# Altium schematic symbol library DD.SchLib: 19 symbols
Pins are listed as number, name and electrical type; pins without a type are passive.

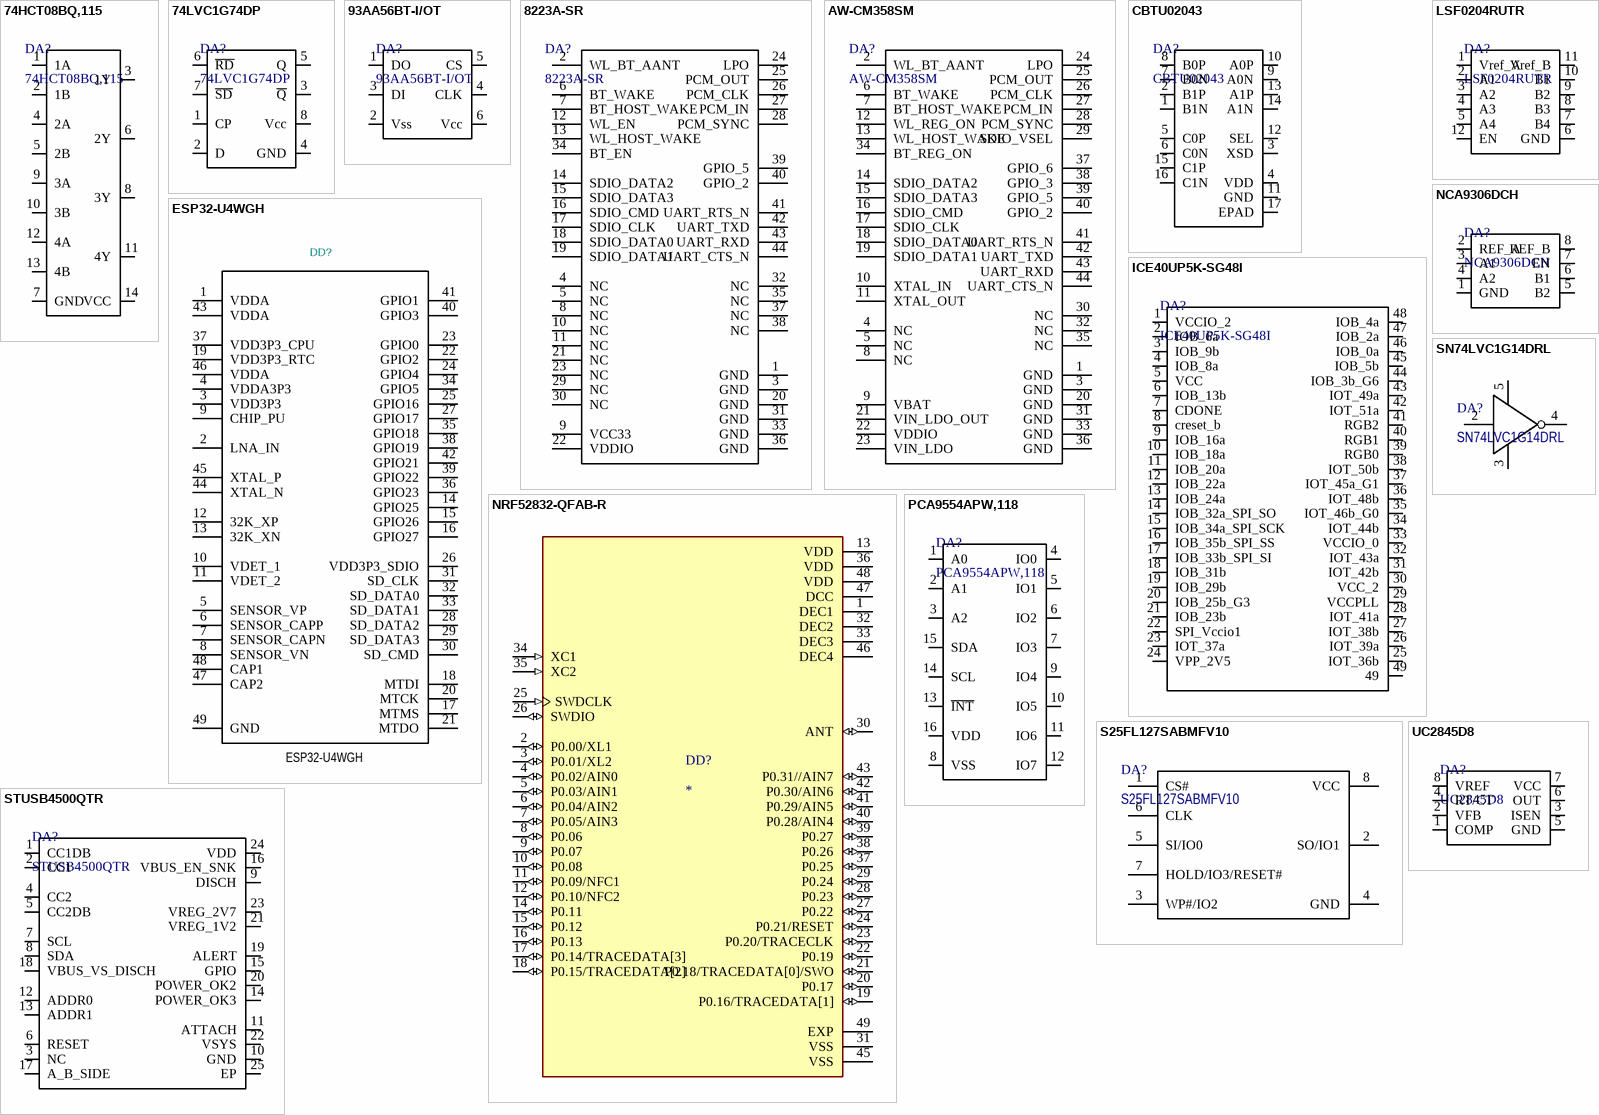
[diagram p0: symbols 74HCT08BQ,115 to UC2845D8]

## 74HCT08BQ,115
designator DA?
The 74HC08; 74HCT08 is a quad 2-input AND gate. Inputs include clamp diodes. This enables the / use of current limiting resistors to interface inputs to voltages in excess of VCC.
footprint DHVQFN14
pins: 1 1A, 2 1B, 3 1Y, 4 2A, 5 2B, 6 2Y, 7 GND, 8 3Y, 9 3A, 10 3B, 11 4Y, 12 4A, 13 4B, 14 VCC

## 74LVC1G74DP
designator DA?
IC FF D-TYPE SNGL 1BIT 8TSSOP
footprint TSOP8 (SOT505-2)
pins: 1 CP, 2 D, 3 ~{Q}, 4 GND, 5 Q, 6 ~{RD}, 7 ~{SD}, 8 Vcc

## 93AA56BT-I/OT
designator DA?
IC EEPROM 2KBIT MIC WIRE SOT23-6
footprint SOT-23-6
pins: 1 DO, 2 Vss, 3 DI, 4 CLK, 5 CS, 6 Vcc

## 8223A-SR
designator DA?
IEEE 802.11a/b/g/n/ac WLAN with  Bluetooth 5 Combo Stamp Module
footprint AW-CM358SM
pins: 1 GND, 2 WL_BT_AANT, 3 GND, 4 NC, 5 NC, 6 BT_WAKE, 7 BT_HOST_WAKE, 8 NC, 9 VCC33, 10 NC, 11 NC, 12 WL_EN, 13 WL_HOST_WAKE, 14 SDIO_DATA2, 15 SDIO_DATA3, 16 SDIO_CMD, 17 SDIO_CLK, 18 SDIO_DATA0, 19 SDIO_DATA1, 20 GND, 21 NC, 22 VDDIO, 23 NC, 24 LPO, 25 PCM_OUT, 26 PCM_CLK, 27 PCM_IN, 28 PCM_SYNC, 29 NC, 30 NC, 31 GND, 32 NC, 33 GND, 34 BT_EN, 35 NC, 36 GND, 37 NC, 38 NC, 39 GPIO_5, 40 GPIO_2, 41 UART_RTS_N, 42 UART_TXD, 43 UART_RXD, 44 UART_CTS_N

## AW-CM358SM
designator DA?
IEEE 802.11a/b/g/n/ac WLAN with  Bluetooth 5 Combo Stamp Module
footprint AW-CM358SM
pins: 1 GND, 2 WL_BT_AANT, 3 GND, 4 NC, 5 NC, 6 BT_WAKE, 7 BT_HOST_WAKE, 8 NC, 9 VBAT, 10 XTAL_IN, 11 XTAL_OUT, 12 WL_REG_ON, 13 WL_HOST_WAKE, 14 SDIO_DATA2, 15 SDIO_DATA3, 16 SDIO_CMD, 17 SDIO_CLK, 18 SDIO_DATA0, 19 SDIO_DATA1, 20 GND, 21 VIN_LDO_OUT, 22 VDDIO, 23 VIN_LDO, 24 LPO, 25 PCM_OUT, 26 PCM_CLK, 27 PCM_IN, 28 PCM_SYNC, 29 SDIO_VSEL, 30 NC, 31 GND, 32 NC, 33 GND, 34 BT_REG_ON, 35 NC, 36 GND, 37 GPIO_6, 38 GPIO_3, 39 GPIO_5, 40 GPIO_2, 41 UART_RTS_N, 42 UART_TXD, 43 UART_RXD, 44 UART_CTS_N

## CBTU02043
designator DA?
High-speed differential 1-to-2 switch
footprint HUQFN16 (1.6x2.4x0.5 mm)
pins: 1 B1N, 2 B1P, 3 XSD, 4 VDD, 5 C0P, 6 C0N, 7 B0N, 8 B0P, 9 A0N, 10 A0P, 11 GND, 12 SEL, 13 A1P, 14 A1N, 15 C1P, 16 C1N, 17 EPAD

## ESP32-U4WGH
designator DD?
PartNumber: ESP32-U4WGH; Footprint: Package_DFN_QFN:QFN-48-1EP_5x5mm_P0.35mm_EP3.7x3.7mm; Value: ESP32-U4WGH
footprint QFN35P500X500X90_HS-49N (QFN, 48-Leads, Body 5,00x5,00mm, Pitch 0,35mm, Thermal Pad 3,70x3,70mm, IPC Medium Density)
pins: 1 VDDA, 2 LNA_IN, 3 VDD3P3, 4 VDDA3P3, 5 SENSOR_VP, 6 SENSOR_CAPP, 7 SENSOR_CAPN, 8 SENSOR_VN, 9 CHIP_PU, 10 VDET_1, 11 VDET_2, 12 32K_XP, 13 32K_XN, 14 GPIO25, 15 GPIO26, 16 GPIO27, 17 MTMS, 18 MTDI, 19 VDD3P3_RTC, 20 MTCK, 21 MTDO, 22 GPIO2, 23 GPIO0, 24 GPIO4, 25 GPIO16, 26 VDD3P3_SDIO, 27 GPIO17, 28 SD_DATA2, 29 SD_DATA3, 30 SD_CMD, 31 SD_CLK, 32 SD_DATA0, 33 SD_DATA1, 34 GPIO5, 35 GPIO18, 36 GPIO23, 37 VDD3P3_CPU, 38 GPIO19, 39 GPIO22, 40 GPIO3, 41 GPIO1, 42 GPIO21, 43 VDDA, 44 XTAL_N, 45 XTAL_P, 46 VDDA, 47 CAP2, 48 CAP1, 49 GND

## ICE40UP5K-SG48I
designator DA?
iCE40 UltraPlus™ Field Programmable Gate Array (FPGA) IC 39 1171456 5280 48-VFQFN Exposed Pad
footprint QFN48_6x6
pins: 1 VCCIO_2, 2 IOB_6a, 3 IOB_9b, 4 IOB_8a, 5 VCC, 6 IOB_13b, 7 CDONE, 8 creset_b, 9 IOB_16a, 10 IOB_18a, 11 IOB_20a, 12 IOB_22a, 13 IOB_24a, 14 IOB_32a_SPI_SO, 15 IOB_34a_SPI_SCK, 16 IOB_35b_SPI_SS, 17 IOB_33b_SPI_SI, 18 IOB_31b, 19 IOB_29b, 20 IOB_25b_G3, 21 IOB_23b, 22 SPI_Vccio1, 23 IOT_37a, 24 VPP_2V5, 25 IOT_36b, 26 IOT_39a, 27 IOT_38b, 28 IOT_41a, 29 VCCPLL, 30 VCC_2, 31 IOT_42b, 32 IOT_43a, 33 VCCIO_0, 34 IOT_44b, 35 IOT_46b_G0, 36 IOT_48b, 37 IOT_45a_G1, 38 IOT_50b, 39 RGB0, 40 RGB1, 41 RGB2, 42 IOT_51a, 43 IOT_49a, 44 IOB_3b_G6, 45 IOB_5b, 46 IOB_0a, 47 IOB_2a, 48 IOB_4a, 49

## LSF0204RUTR
designator DA?
LSF0204RUTR Translation - Voltage Levels 4Bit BidirectionalV Lev Transltr 12-UQFN
footprint UQFN12
pins: 1 Vref_A, 2 A1, 3 A2, 4 A3, 5 A4, 6 GND, 7 B4, 8 B3, 9 B2, 10 B1, 11 Vref_B, 12 EN

## NCA9306DCH
designator DA?
Voltage Level Translator Bidirectional 1 Circuit 2 Channel 100MHz 8-VSSOP
footprint VSSOP-8
pins: 1 GND, 2 REF_A, 3 A1, 4 A2, 5 B2, 6 B1, 7 EN, 8 REF_B

## NRF52832-QFAB-R
designator DD?
IC RF TxRx + MCU Bluetooth, General ISM > 1GHz ANT, Bluetooth v5.0 2.4GHz 48-VFQFN Exposed Pad; MP: NRF52832-QFAB-R; MF: Nordic Semiconductor; Price: None; SnapEDA_Link: https://www.snapeda.com/parts/NRF52832-QFAB-R/Nordic%20Semiconductor%20ASA/view-part/548168/?ref=snap; Availability: Unavailable; Value: *; Package: VFQFN-48 Nordic Semiconductor
footprint QFN40P600X600X90-49N
pins: 1 DEC1 (power), 2 P0.00/XL1 (io), 3 P0.01/XL2 (io), 4 P0.02/AIN0 (io), 5 P0.03/AIN1 (io), 6 P0.04/AIN2 (io), 7 P0.05/AIN3 (io), 8 P0.06 (io), 9 P0.07 (io), 10 P0.08 (io), 11 P0.09/NFC1 (io), 12 P0.10/NFC2 (io), 13 VDD (power), 14 P0.11 (io), 15 P0.12 (io), 16 P0.13 (io), 17 P0.14/TRACEDATA[3] (io), 18 P0.15/TRACEDATA[2] (io), 19 P0.16/TRACEDATA[1] (io), 20 P0.17 (io), 21 P0.18/TRACEDATA[0]/SWO (io), 22 P0.19 (io), 23 P0.20/TRACECLK (io), 24 P0.21/RESET (io), 25 SWDCLK (in), 26 SWDIO (io), 27 P0.22 (io), 28 P0.23 (io), 29 P0.24 (io), 30 ANT (io), 31 VSS (power), 32 DEC2 (power), 33 DEC3 (power), 34 XC1 (in), 35 XC2 (in), 36 VDD (power), 37 P0.25 (io), 38 P0.26 (io), 39 P0.27 (io), 40 P0.28/AIN4 (io), 41 P0.29/AIN5 (io), 42 P0.30/AIN6 (io), 43 P0.31//AIN7 (io), 45 VSS (power), 46 DEC4 (power), 47 DCC (power), 48 VDD (power), 49 EXP (power)

## PCA9554APW,118
designator DA?
8-bit I2C-bus and SMBus I/O port with interrupt
footprint TSSOP16
pins: 1 A0, 2 A1, 3 A2, 4 IO0, 5 IO1, 6 IO2, 7 IO3, 8 VSS, 9 IO4, 10 IO5, 11 IO6, 12 IO7, 13 ~{INT}, 14 SCL, 15 SDA, 16 VDD

## S25FL127SABMFV10
designator DA?
NOR Flash Nor
footprint SOIC-8 (6x5x1.75 mm)
pins: 1 CS#, 2 SO/IO1, 3 WP#/IO2, 4 GND, 5 SI/IO0, 6 CLK, 7 HOLD/IO3/RESET#, 8 VCC

## SN74LVC1G14DRL
designator DA?
Inverters Single Schmitt-Trig Inverter
footprint 5-Pin SOT-5X3
pins: 2 A, 3 GND, 4 Y, 5 VCC

## STUSB4500QTR
designator DA?
Standalone USB PD sink controller with short-to-VBUS protections
footprint QFN-24 (4X4)
pins: 1 CC1DB, 2 CC1, 3 NC, 4 CC2, 5 CC2DB, 6 RESET, 7 SCL, 8 SDA, 9 DISCH, 10 GND, 11 ATTACH, 12 ADDR0, 13 ADDR1, 14 POWER_OK3, 15 GPIO, 16 VBUS_EN_SNK, 17 A_B_SIDE, 18 VBUS_VS_DISCH, 19 ALERT, 20 POWER_OK2, 21 VREG_1V2, 22 VSYS, 23 VREG_2V7, 24 VDD, 25 EP

## UC2845D8
designator DA?
Single ended 500KHz current mode PWM controller with 8.4V/7.6V UVLO 50% duty cycle, -40C to 85C
footprint SOIC-8 (6x5x1.75 mm)
pins: 1 COMP, 2 VFB, 3 ISEN, 4 RT/CT, 5 GND, 6 OUT, 7 VCC, 8 VREF

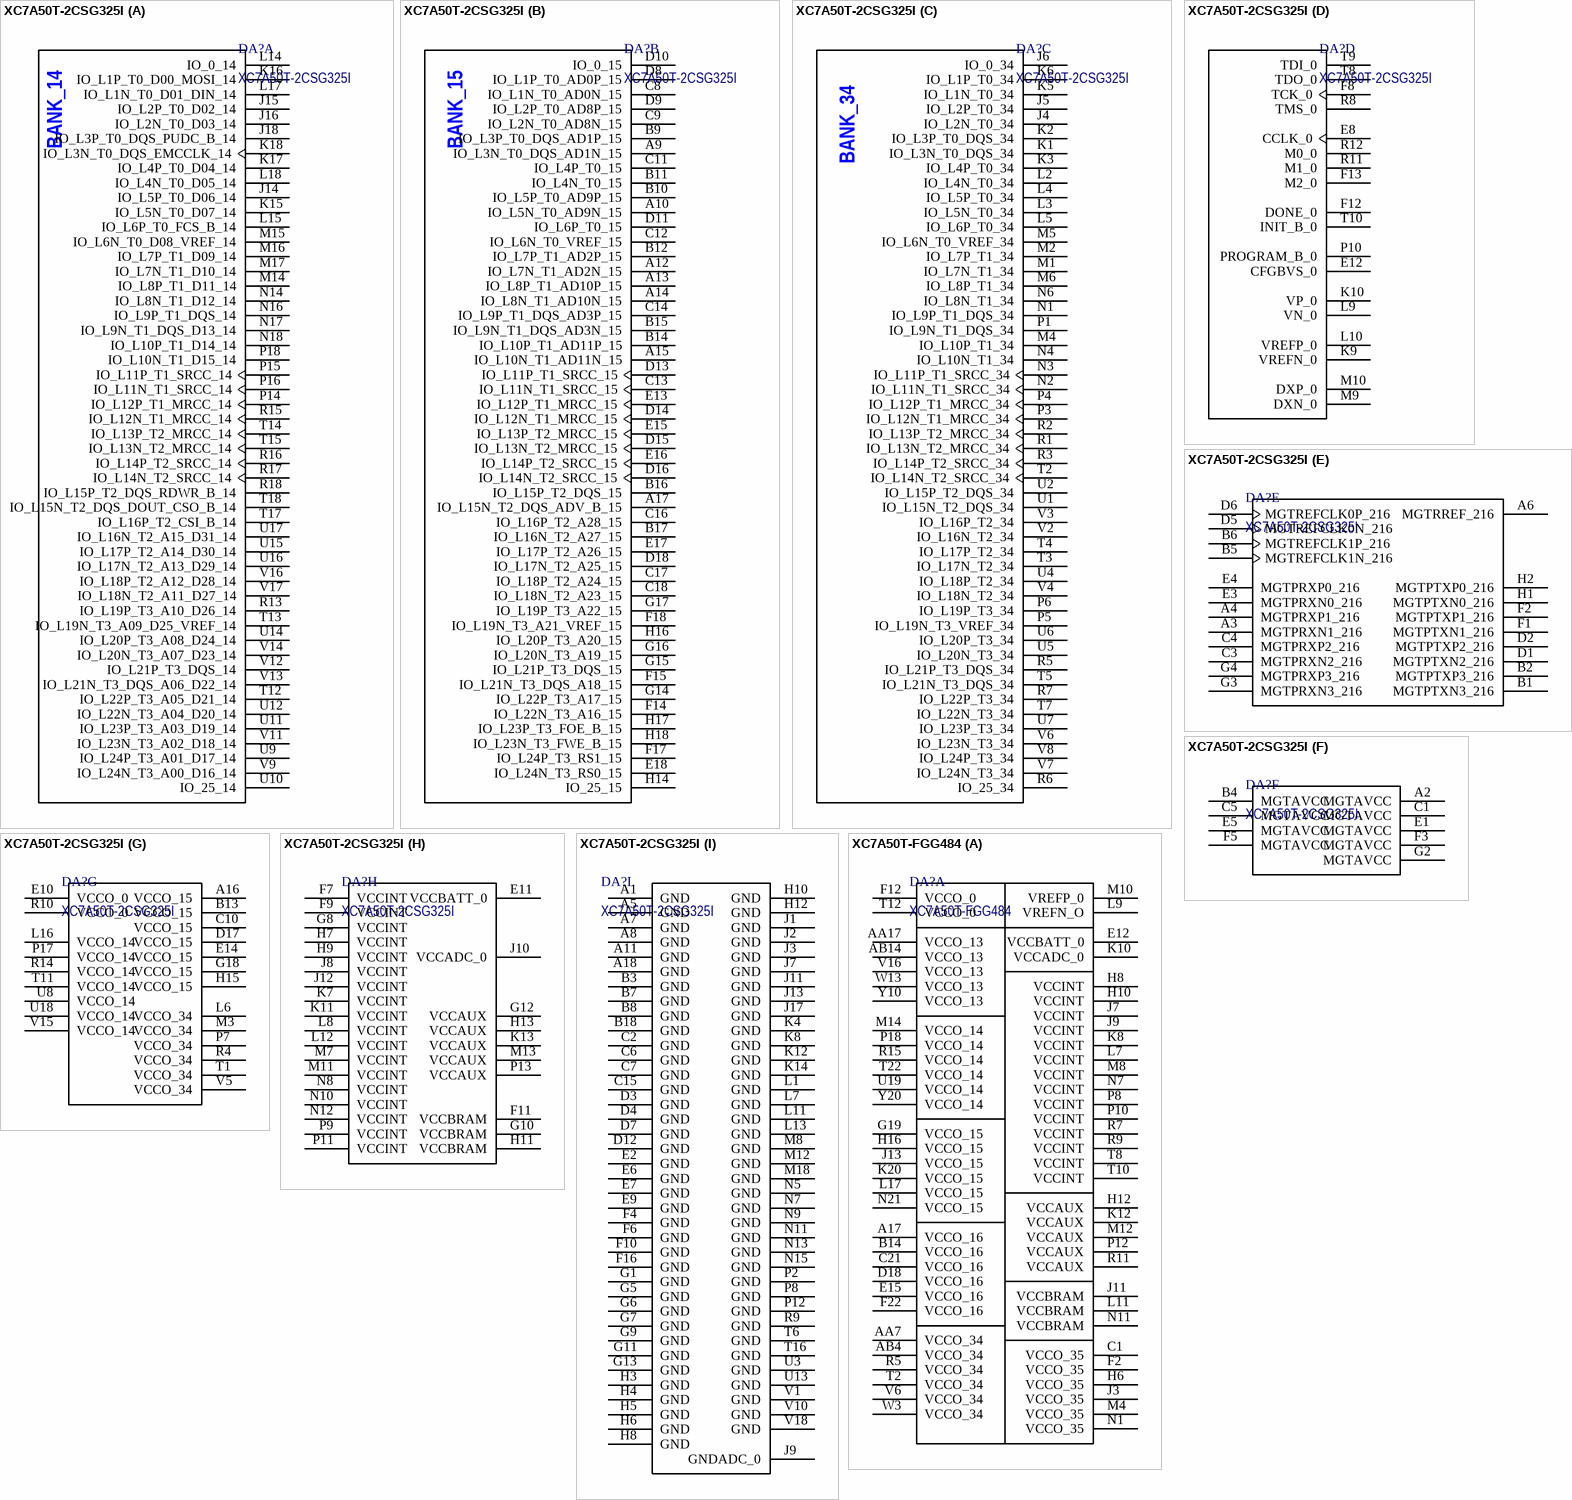
[diagram p1: symbols XC7A50T-2CSG325I to XC7A50T-FGG484]

## XC7A50T-2CSG325I
designator DA?
Artix-7 FPGA
footprint XC7A50T-2CSG325I (Artix-7 FPGA)
part A pins: J14 IO_L5P_T0_D06_14, J15 IO_L2P_T0_D02_14, J16 IO_L2N_T0_D03_14, J18 IO_L3P_T0_DQS_PUDC_B_14, K15 IO_L5N_T0_D07_14, K16 IO_L1P_T0_D00_MOSI_14, K17 IO_L4P_T0_D04_14, K18 IO_L3N_T0_DQS_EMCCLK_14, L14 IO_0_14, L15 IO_L6P_T0_FCS_B_14, L17 IO_L1N_T0_D01_DIN_14, L18 IO_L4N_T0_D05_14, M14 IO_L8P_T1_D11_14, M15 IO_L6N_T0_D08_VREF_14, M16 IO_L7P_T1_D09_14, M17 IO_L7N_T1_D10_14, N14 IO_L8N_T1_D12_14, N16 IO_L9P_T1_DQS_14, N17 IO_L9N_T1_DQS_D13_14, N18 IO_L10P_T1_D14_14, P14 IO_L12P_T1_MRCC_14, P15 IO_L11P_T1_SRCC_14, P16 IO_L11N_T1_SRCC_14, P18 IO_L10N_T1_D15_14, R13 IO_L19P_T3_A10_D26_14, R15 IO_L12N_T1_MRCC_14, R16 IO_L14P_T2_SRCC_14, R17 IO_L14N_T2_SRCC_14, R18 IO_L15P_T2_DQS_RDWR_B_14, T12 IO_L22P_T3_A05_D21_14, T13 IO_L19N_T3_A09_D25_VREF_14, T14 IO_L13P_T2_MRCC_14, T15 IO_L13N_T2_MRCC_14, T17 IO_L16P_T2_CSI_B_14, T18 IO_L15N_T2_DQS_DOUT_CSO_B_14, U9 IO_L24P_T3_A01_D17_14, U10 IO_25_14, U11 IO_L23P_T3_A03_D19_14, U12 IO_L22N_T3_A04_D20_14, U14 IO_L20P_T3_A08_D24_14, U15 IO_L17P_T2_A14_D30_14, U16 IO_L17N_T2_A13_D29_14, U17 IO_L16N_T2_A15_D31_14, V9 IO_L24N_T3_A00_D16_14, V11 IO_L23N_T3_A02_D18_14, V12 IO_L21P_T3_DQS_14, V13 IO_L21N_T3_DQS_A06_D22_14, V14 IO_L20N_T3_A07_D23_14, V16 IO_L18P_T2_A12_D28_14, V17 IO_L18N_T2_A11_D27_14
part B pins: A9 IO_L3N_T0_DQS_AD1N_15, A10 IO_L5N_T0_AD9N_15, A12 IO_L7N_T1_AD2N_15, A13 IO_L8P_T1_AD10P_15, A14 IO_L8N_T1_AD10N_15, A15 IO_L10N_T1_AD11N_15, A17 IO_L15N_T2_DQS_ADV_B_15, B9 IO_L3P_T0_DQS_AD1P_15, B10 IO_L5P_T0_AD9P_15, B11 IO_L4N_T0_15, B12 IO_L7P_T1_AD2P_15, B14 IO_L10P_T1_AD11P_15, B15 IO_L9N_T1_DQS_AD3N_15, B16 IO_L15P_T2_DQS_15, B17 IO_L16N_T2_A27_15, C8 IO_L1N_T0_AD0N_15, C9 IO_L2N_T0_AD8N_15, C11 IO_L4P_T0_15, C12 IO_L6N_T0_VREF_15, C13 IO_L11N_T1_SRCC_15, C14 IO_L9P_T1_DQS_AD3P_15, C16 IO_L16P_T2_A28_15, C17 IO_L18P_T2_A24_15, C18 IO_L18N_T2_A23_15, D8 IO_L1P_T0_AD0P_15, D9 IO_L2P_T0_AD8P_15, D10 IO_0_15, D11 IO_L6P_T0_15, D13 IO_L11P_T1_SRCC_15, D14 IO_L12N_T1_MRCC_15, D15 IO_L13N_T2_MRCC_15, D16 IO_L14N_T2_SRCC_15, D18 IO_L17N_T2_A25_15, E13 IO_L12P_T1_MRCC_15, E15 IO_L13P_T2_MRCC_15, E16 IO_L14P_T2_SRCC_15, E17 IO_L17P_T2_A26_15, E18 IO_L24N_T3_RS0_15, F14 IO_L22N_T3_A16_15, F15 IO_L21N_T3_DQS_A18_15, F17 IO_L24P_T3_RS1_15, F18 IO_L19N_T3_A21_VREF_15, G14 IO_L22P_T3_A17_15, G15 IO_L21P_T3_DQS_15, G16 IO_L20N_T3_A19_15, G17 IO_L19P_T3_A22_15, H14 IO_25_15, H16 IO_L20P_T3_A20_15, H17 IO_L23P_T3_FOE_B_15, H18 IO_L23N_T3_FWE_B_15
part C pins: J4 IO_L2N_T0_34, J5 IO_L2P_T0_34, J6 IO_0_34, K1 IO_L3N_T0_DQS_34, K2 IO_L3P_T0_DQS_34, K3 IO_L4P_T0_34, K5 IO_L1N_T0_34, K6 IO_L1P_T0_34, L2 IO_L4N_T0_34, L3 IO_L5N_T0_34, L4 IO_L5P_T0_34, L5 IO_L6P_T0_34, M1 IO_L7N_T1_34, M2 IO_L7P_T1_34, M4 IO_L10P_T1_34, M5 IO_L6N_T0_VREF_34, M6 IO_L8P_T1_34, N1 IO_L9P_T1_DQS_34, N2 IO_L11N_T1_SRCC_34, N3 IO_L11P_T1_SRCC_34, N4 IO_L10N_T1_34, N6 IO_L8N_T1_34, P1 IO_L9N_T1_DQS_34, P3 IO_L12N_T1_MRCC_34, P4 IO_L12P_T1_MRCC_34, P5 IO_L19N_T3_VREF_34, P6 IO_L19P_T3_34, R1 IO_L13N_T2_MRCC_34, R2 IO_L13P_T2_MRCC_34, R3 IO_L14P_T2_SRCC_34, R5 IO_L21P_T3_DQS_34, R6 IO_25_34, R7 IO_L22P_T3_34, T2 IO_L14N_T2_SRCC_34, T3 IO_L17N_T2_34, T4 IO_L17P_T2_34, T5 IO_L21N_T3_DQS_34, T7 IO_L22N_T3_34, U1 IO_L15N_T2_DQS_34, U2 IO_L15P_T2_DQS_34, U4 IO_L18P_T2_34, U5 IO_L20N_T3_34, U6 IO_L20P_T3_34, U7 IO_L23P_T3_34, V2 IO_L16N_T2_34, V3 IO_L16P_T2_34, V4 IO_L18N_T2_34, V6 IO_L23N_T3_34, V7 IO_L24N_T3_34, V8 IO_L24P_T3_34
part D pins: E8 CCLK_0, E12 CFGBVS_0, F8 TCK_0, F12 DONE_0, F13 M2_0, K9 VREFN_0, K10 VP_0, L9 VN_0, L10 VREFP_0, M9 DXN_0, M10 DXP_0, P10 PROGRAM_B_0, R8 TMS_0, R11 M1_0, R12 M0_0, T8 TDO_0, T9 TDI_0, T10 INIT_B_0
part E pins: A3 MGTPRXN1_216, A4 MGTPRXP1_216, A6 MGTRREF_216, B1 MGTPTXN3_216, B2 MGTPTXP3_216, B5 MGTREFCLK1N_216, B6 MGTREFCLK1P_216, C3 MGTPRXN2_216, C4 MGTPRXP2_216, D1 MGTPTXN2_216, D2 MGTPTXP2_216, D5 MGTREFCLK0N_216, D6 MGTREFCLK0P_216, E3 MGTPRXN0_216, E4 MGTPRXP0_216, F1 MGTPTXN1_216, F2 MGTPTXP1_216, G3 MGTPRXN3_216, G4 MGTPRXP3_216, H1 MGTPTXN0_216, H2 MGTPTXP0_216
part F pins: A2 MGTAVCC, B4 MGTAVCC, C1 MGTAVCC, C5 MGTAVCC, E1 MGTAVCC, E5 MGTAVCC, F3 MGTAVCC, F5 MGTAVCC, G2 MGTAVCC
part G pins: A16 VCCO_15, B13 VCCO_15, C10 VCCO_15, D17 VCCO_15, E10 VCCO_0, E14 VCCO_15, G18 VCCO_15, H15 VCCO_15, L6 VCCO_34, L16 VCCO_14, M3 VCCO_34, P7 VCCO_34, P17 VCCO_14, R4 VCCO_34, R10 VCCO_0, R14 VCCO_14, T1 VCCO_34, T11 VCCO_14, U8 VCCO_14, U18 VCCO_14, V5 VCCO_34, V15 VCCO_14
part H pins: E11 VCCBATT_0, F7 VCCINT, F9 VCCINT, F11 VCCBRAM, G8 VCCINT, G10 VCCBRAM, G12 VCCAUX, H7 VCCINT, H9 VCCINT, H11 VCCBRAM, H13 VCCAUX, J8 VCCINT, J10 VCCADC_0, J12 VCCINT, K7 VCCINT, K11 VCCINT, K13 VCCAUX, L8 VCCINT, L12 VCCINT, M7 VCCINT, M11 VCCINT, M13 VCCAUX, N8 VCCINT, N10 VCCINT, N12 VCCINT, P9 VCCINT, P11 VCCINT, P13 VCCAUX
part I pins: A1 GND, A5 GND, A7 GND, A8 GND, A11 GND, A18 GND, B3 GND, B7 GND, B8 GND, B18 GND, C2 GND, C6 GND, C7 GND, C15 GND, D3 GND, D4 GND, D7 GND, D12 GND, E2 GND, E6 GND, E7 GND, E9 GND, F4 GND, F6 GND, F10 GND, F16 GND, G1 GND, G5 GND, G6 GND, G7 GND, G9 GND, G11 GND, G13 GND, H3 GND, H4 GND, H5 GND, H6 GND, H8 GND, H10 GND, H12 GND, J1 GND, J2 GND, J3 GND, J7 GND, J9 GNDADC_0, J11 GND, J13 GND, J17 GND, K4 GND, K8 GND, K12 GND, K14 GND, L1 GND, L7 GND, L11 GND, L13 GND, M8 GND, M12 GND, M18 GND, N5 GND, N7 GND, N9 GND, N11 GND, N13 GND, N15 GND, P2 GND, P8 GND, P12 GND, R9 GND, T6 GND, T16 GND, U3 GND, U13 GND, V1 GND, V10 GND, V18 GND
part A text: BANK_14
part B text: BANK_15
part C text: BANK_34

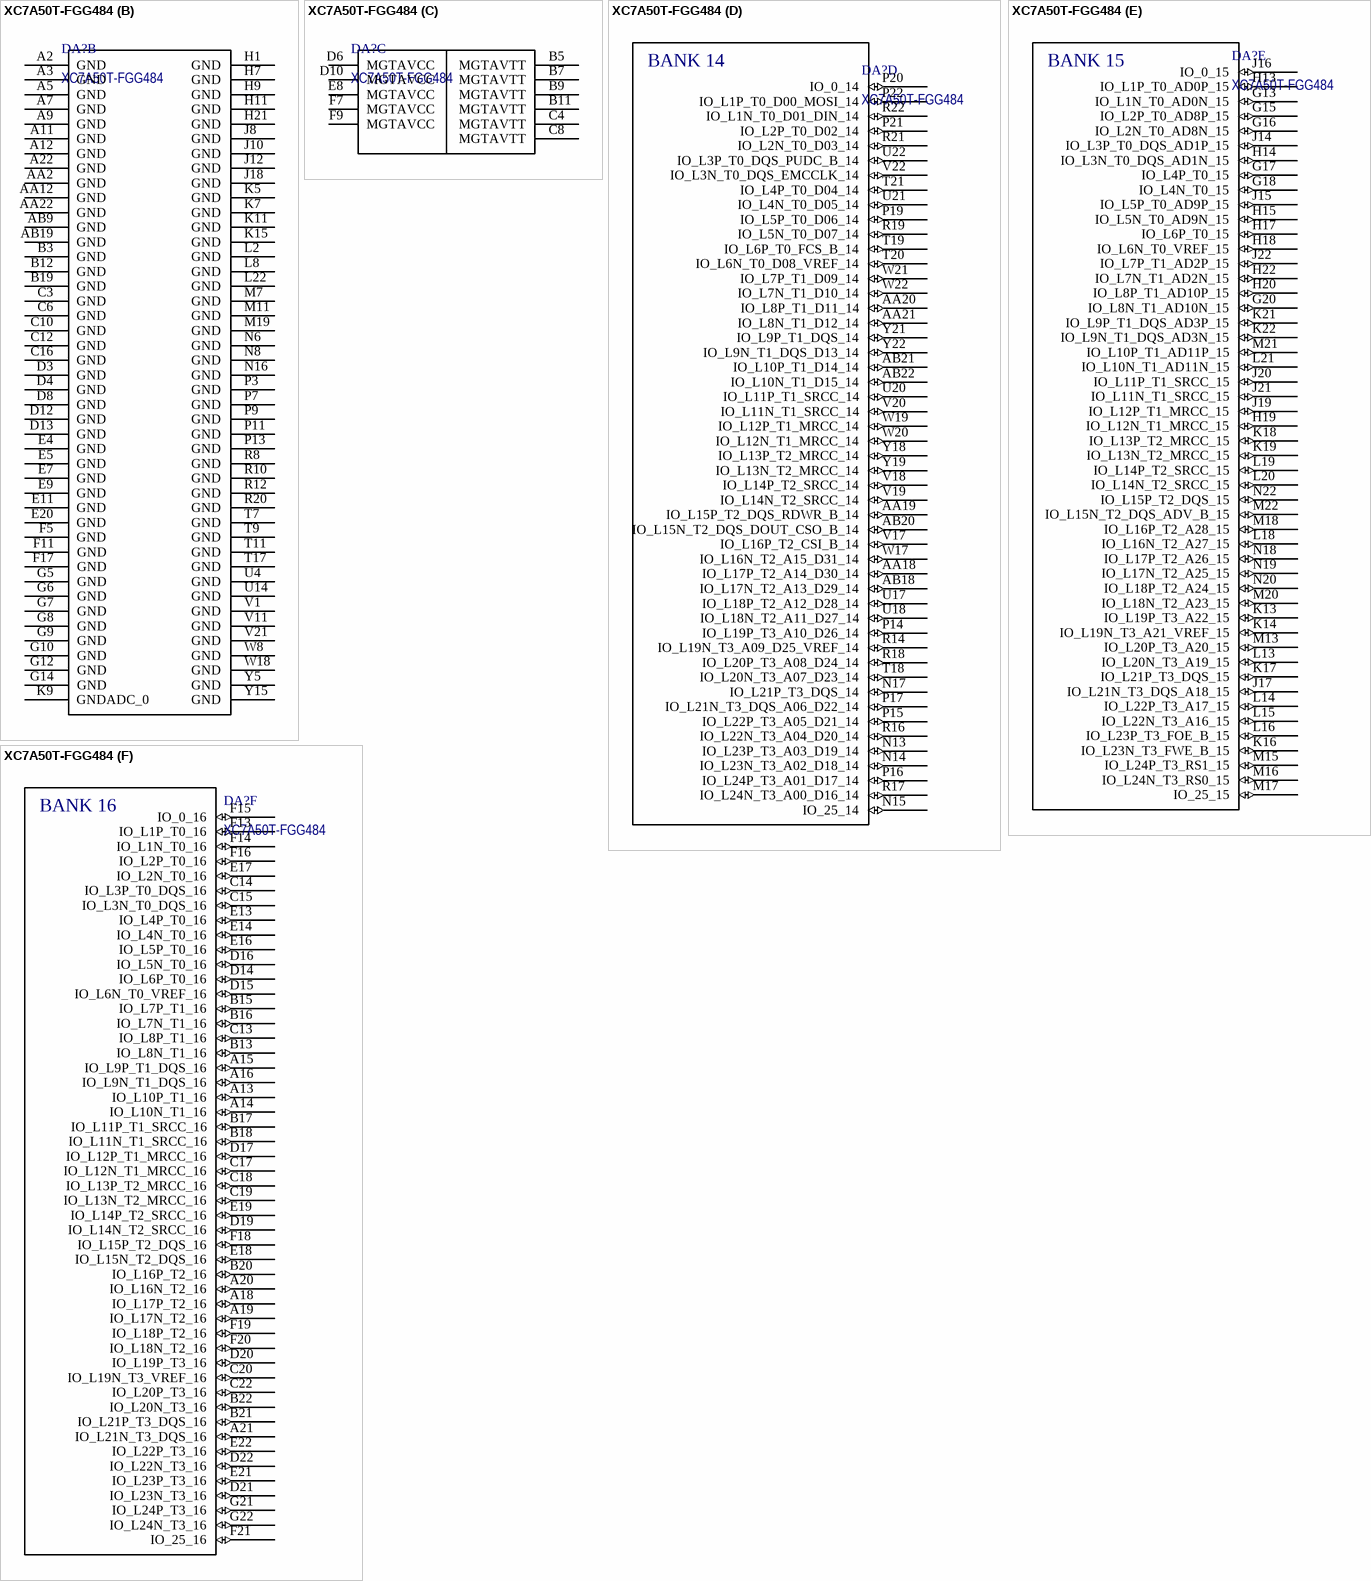
[diagram p2: symbol XC7A50T-FGG484]

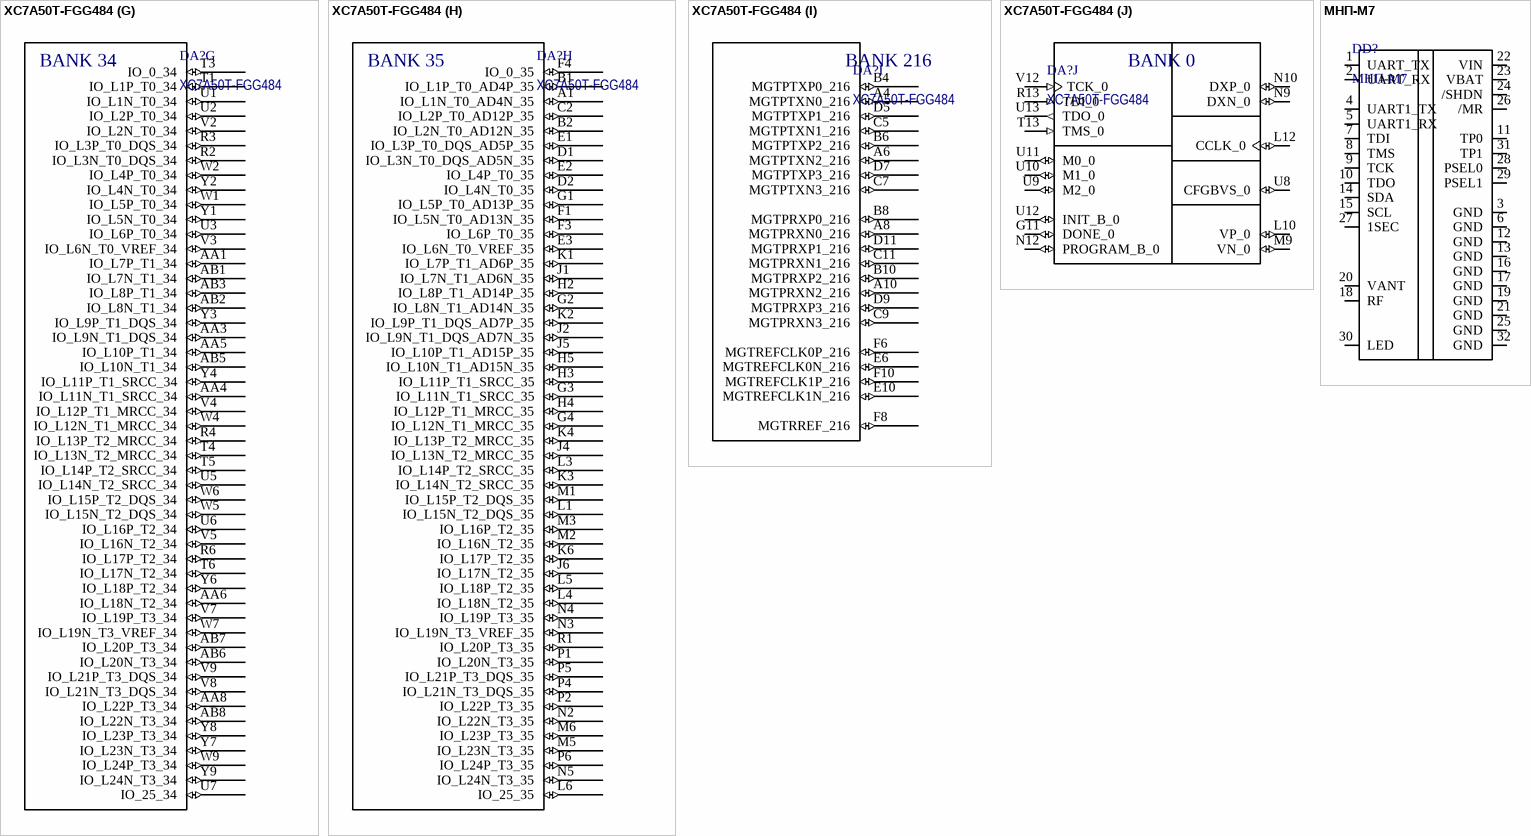
[diagram p3: symbols XC7A50T-FGG484 to МНП-М7]

## XC7A50T-FGG484
designator DA?
Artix-7 FPGA
footprint XC7A50T-fgg484 (22x22x2.2 pitch 1mm)
part A pins: A17 VCCO_16 (power), AA7 VCCO_34 (power), AA17 VCCO_13 (power), AB4 VCCO_34 (power), AB14 VCCO_13 (power), B14 VCCO_16 (power), C1 VCCO_35 (power), C21 VCCO_16 (power), D18 VCCO_16 (power), E12 VCCBATT_0 (power), E15 VCCO_16 (power), F2 VCCO_35 (power), F12 VCCO_0 (power), F22 VCCO_16 (power), G19 VCCO_15 (power), H6 VCCO_35 (power), H8 VCCINT (power), H10 VCCINT (power), H12 VCCAUX (power), H16 VCCO_15 (power), J3 VCCO_35 (power), J7 VCCINT (power), J9 VCCINT (power), J11 VCCBRAM (power), J13 VCCO_15 (power), K8 VCCINT (power), K10 VCCADC_0 (power), K12 VCCAUX (power), K20 VCCO_15 (power), L7 VCCINT (power), L9 VREFN_O (power), L11 VCCBRAM (power), L17 VCCO_15 (power), M4 VCCO_35 (power), M8 VCCINT (power), M10 VREFP_0 (power), M12 VCCAUX (power), M14 VCCO_14 (power), N1 VCCO_35 (power), N7 VCCINT (power), N11 VCCBRAM (power), N21 VCCO_15 (power), P8 VCCINT (power), P10 VCCINT (power), P12 VCCAUX (power), P18 VCCO_14 (power), R5 VCCO_34 (power), R7 VCCINT (power), R9 VCCINT (power), R11 VCCAUX (power), R15 VCCO_14 (power), T2 VCCO_34 (power), T8 VCCINT (power), T10 VCCINT (power), T12 VCCO_0 (power), T22 VCCO_14 (power), U19 VCCO_14 (power), V6 VCCO_34 (power), V16 VCCO_13 (power), W3 VCCO_34 (power), W13 VCCO_13 (power), Y10 VCCO_13 (power), Y20 VCCO_14 (power)
part B pins: A2 GND (power), A3 GND (power), A5 GND (power), A7 GND (power), A9 GND (power), A11 GND (power), A12 GND (power), A22 GND (power), AA2 GND (power), AA12 GND (power), AA22 GND (power), AB9 GND (power), AB19 GND (power), B3 GND (power), B12 GND (power), B19 GND (power), C3 GND (power), C6 GND (power), C10 GND (power), C12 GND (power), C16 GND (power), D3 GND (power), D4 GND (power), D8 GND (power), D12 GND (power), D13 GND (power), E4 GND (power), E5 GND (power), E7 GND (power), E9 GND (power), E11 GND (power), E20 GND (power), F5 GND (power), F11 GND (power), F17 GND (power), G5 GND (power), G6 GND (power), G7 GND (power), G8 GND (power), G9 GND (power), G10 GND (power), G12 GND (power), G14 GND (power), H1 GND (power), H7 GND (power), H9 GND (power), H11 GND (power), H21 GND (power), J8 GND (power), J10 GND (power), J12 GND (power), J18 GND (power), K5 GND (power), K7 GND (power), K9 GNDADC_0 (power), K11 GND (power), K15 GND (power), L2 GND (power), L8 GND (power), L22 GND (power), M7 GND (power), M11 GND (power), M19 GND (power), N6 GND (power), N8 GND (power), N16 GND (power), P3 GND (power), P7 GND (power), P9 GND (power), P11 GND (power), P13 GND (power), R8 GND (power), R10 GND (power), R12 GND (power), R20 GND (power), T7 GND (power), T9 GND (power), T11 GND (power), T17 GND (power), U4 GND (power), U14 GND (power), V1 GND (power), V11 GND (power), V21 GND (power), W8 GND (power), W18 GND (power), Y5 GND (power), Y15 GND (power)
part C pins: B5 MGTAVTT (power), B7 MGTAVTT (power), B9 MGTAVTT (power), B11 MGTAVTT (power), C4 MGTAVTT (power), C8 MGTAVTT (power), D6 MGTAVCC (power), D10 MGTAVCC (power), E8 MGTAVCC (power), F7 MGTAVCC (power), F9 MGTAVCC (power)
part D pins: AA18 IO_L17P_T2_A14_D30_14 (io), AA19 IO_L15P_T2_DQS_RDWR_B_14 (io), AA20 IO_L8P_T1_D11_14 (io), AA21 IO_L8N_T1_D12_14 (io), AB18 IO_L17N_T2_A13_D29_14 (io), AB20 IO_L15N_T2_DQS_DOUT_CSO_B_14 (io), AB21 IO_L10P_T1_D14_14 (io), AB22 IO_L10N_T1_D15_14 (io), N13 IO_L23P_T3_A03_D19_14 (io), N14 IO_L23N_T3_A02_D18_14 (io), N15 IO_25_14 (io), N17 IO_L21P_T3_DQS_14 (io), P14 IO_L19P_T3_A10_D26_14 (io), P15 IO_L22P_T3_A05_D21_14 (io), P16 IO_L24P_T3_A01_D17_14 (io), P17 IO_L21N_T3_DQS_A06_D22_14 (io), P19 IO_L5P_T0_D06_14 (io), P20 IO_0_14 (io), P21 IO_L2P_T0_D02_14 (io), P22 IO_L1P_T0_D00_MOSI_14 (io), R14 IO_L19N_T3_A09_D25_VREF_14 (io), R16 IO_L22N_T3_A04_D20_14 (io), R17 IO_L24N_T3_A00_D16_14 (io), R18 IO_L20P_T3_A08_D24_14 (io), R19 IO_L5N_T0_D07_14 (io), R21 IO_L2N_T0_D03_14 (io), R22 IO_L1N_T0_D01_DIN_14 (io), T18 IO_L20N_T3_A07_D23_14 (io), T19 IO_L6P_T0_FCS_B_14 (io), T20 IO_L6N_T0_D08_VREF_14 (io), T21 IO_L4P_T0_D04_14 (io), U17 IO_L18P_T2_A12_D28_14 (io), U18 IO_L18N_T2_A11_D27_14 (io), U20 IO_L11P_T1_SRCC_14 (io), U21 IO_L4N_T0_D05_14 (io), U22 IO_L3P_T0_DQS_PUDC_B_14 (io), V17 IO_L16P_T2_CSI_B_14 (io), V18 IO_L14P_T2_SRCC_14 (io), V19 IO_L14N_T2_SRCC_14 (io), V20 IO_L11N_T1_SRCC_14 (io), V22 IO_L3N_T0_DQS_EMCCLK_14 (io), W17 IO_L16N_T2_A15_D31_14 (io), W19 IO_L12P_T1_MRCC_14 (io), W20 IO_L12N_T1_MRCC_14 (io), W21 IO_L7P_T1_D09_14 (io), W22 IO_L7N_T1_D10_14 (io), Y18 IO_L13P_T2_MRCC_14 (io), Y19 IO_L13N_T2_MRCC_14 (io), Y21 IO_L9P_T1_DQS_14 (io), Y22 IO_L9N_T1_DQS_D13_14 (io)
part E pins: G13 IO_L1N_T0_AD0N_15 (io), G15 IO_L2P_T0_AD8P_15 (io), G16 IO_L2N_T0_AD8N_15 (io), G17 IO_L4P_T0_15 (io), G18 IO_L4N_T0_15 (io), G20 IO_L8N_T1_AD10N_15 (io), H13 IO_L1P_T0_AD0P_15 (io), H14 IO_L3N_T0_DQS_AD1N_15 (io), H15 IO_L5N_T0_AD9N_15 (io), H17 IO_L6P_T0_15 (io), H18 IO_L6N_T0_VREF_15 (io), H19 IO_L12N_T1_MRCC_15 (io), H20 IO_L8P_T1_AD10P_15 (io), H22 IO_L7N_T1_AD2N_15 (io), J14 IO_L3P_T0_DQS_AD1P_15 (io), J15 IO_L5P_T0_AD9P_15 (io), J16 IO_0_15 (io), J17 IO_L21N_T3_DQS_A18_15 (io), J19 IO_L12P_T1_MRCC_15 (io), J20 IO_L11P_T1_SRCC_15 (io), J21 IO_L11N_T1_SRCC_15 (io), J22 IO_L7P_T1_AD2P_15 (io), K13 IO_L19P_T3_A22_15 (io), K14 IO_L19N_T3_A21_VREF_15 (io), K16 IO_L23N_T3_FWE_B_15 (io), K17 IO_L21P_T3_DQS_15 (io), K18 IO_L13P_T2_MRCC_15 (io), K19 IO_L13N_T2_MRCC_15 (io), K21 IO_L9P_T1_DQS_AD3P_15 (io), K22 IO_L9N_T1_DQS_AD3N_15 (io), L13 IO_L20N_T3_A19_15 (io), L14 IO_L22P_T3_A17_15 (io), L15 IO_L22N_T3_A16_15 (io), L16 IO_L23P_T3_FOE_B_15 (io), L18 IO_L16N_T2_A27_15 (io), L19 IO_L14P_T2_SRCC_15 (io), L20 IO_L14N_T2_SRCC_15 (io), L21 IO_L10N_T1_AD11N_15 (io), M13 IO_L20P_T3_A20_15 (io), M15 IO_L24P_T3_RS1_15 (io), M16 IO_L24N_T3_RS0_15 (io), M17 IO_25_15 (io), M18 IO_L16P_T2_A28_15 (io), M20 IO_L18N_T2_A23_15 (io), M21 IO_L10P_T1_AD11P_15 (io), M22 IO_L15N_T2_DQS_ADV_B_15 (io), N18 IO_L17P_T2_A26_15 (io), N19 IO_L17N_T2_A25_15 (io), N20 IO_L18P_T2_A24_15 (io), N22 IO_L15P_T2_DQS_15 (io)
part F pins: A13 IO_L10P_T1_16 (io), A14 IO_L10N_T1_16 (io), A15 IO_L9P_T1_DQS_16 (io), A16 IO_L9N_T1_DQS_16 (io), A18 IO_L17P_T2_16 (io), A19 IO_L17N_T2_16 (io), A20 IO_L16N_T2_16 (io), A21 IO_L21N_T3_DQS_16 (io), B13 IO_L8N_T1_16 (io), B15 IO_L7P_T1_16 (io), B16 IO_L7N_T1_16 (io), B17 IO_L11P_T1_SRCC_16 (io), B18 IO_L11N_T1_SRCC_16 (io), B20 IO_L16P_T2_16 (io), B21 IO_L21P_T3_DQS_16 (io), B22 IO_L20N_T3_16 (io), C13 IO_L8P_T1_16 (io), C14 IO_L3P_T0_DQS_16 (io), C15 IO_L3N_T0_DQS_16 (io), C17 IO_L12N_T1_MRCC_16 (io), C18 IO_L13P_T2_MRCC_16 (io), C19 IO_L13N_T2_MRCC_16 (io), C20 IO_L19N_T3_VREF_16 (io), C22 IO_L20P_T3_16 (io), D14 IO_L6P_T0_16 (io), D15 IO_L6N_T0_VREF_16 (io), D16 IO_L5N_T0_16 (io), D17 IO_L12P_T1_MRCC_16 (io), D19 IO_L14N_T2_SRCC_16 (io), D20 IO_L19P_T3_16 (io), D21 IO_L23N_T3_16 (io), D22 IO_L22N_T3_16 (io), E13 IO_L4P_T0_16 (io), E14 IO_L4N_T0_16 (io), E16 IO_L5P_T0_16 (io), E17 IO_L2N_T0_16 (io), E18 IO_L15N_T2_DQS_16 (io), E19 IO_L14P_T2_SRCC_16 (io), E21 IO_L23P_T3_16 (io), E22 IO_L22P_T3_16 (io), F13 IO_L1P_T0_16 (io), F14 IO_L1N_T0_16 (io), F15 IO_0_16 (io), F16 IO_L2P_T0_16 (io), F18 IO_L15P_T2_DQS_16 (io), F19 IO_L18P_T2_16 (io), F20 IO_L18N_T2_16 (io), F21 IO_25_16 (io), G21 IO_L24P_T3_16 (io), G22 IO_L24N_T3_16 (io)
part G pins: AA1 IO_L7P_T1_34 (io), AA3 IO_L9N_T1_DQS_34 (io), AA4 IO_L11N_T1_SRCC_34 (io), AA5 IO_L10P_T1_34 (io), AA6 IO_L18N_T2_34 (io), AA8 IO_L22P_T3_34 (io), AB1 IO_L7N_T1_34 (io), AB2 IO_L8N_T1_34 (io), AB3 IO_L8P_T1_34 (io), AB5 IO_L10N_T1_34 (io), AB6 IO_L20N_T3_34 (io), AB7 IO_L20P_T3_34 (io), AB8 IO_L22N_T3_34 (io), R2 IO_L3N_T0_DQS_34 (io), R3 IO_L3P_T0_DQS_34 (io), R4 IO_L13P_T2_MRCC_34 (io), R6 IO_L17P_T2_34 (io), T1 IO_L1P_T0_34 (io), T3 IO_0_34 (io), T4 IO_L13N_T2_MRCC_34 (io), T5 IO_L14P_T2_SRCC_34 (io), T6 IO_L17N_T2_34 (io), U1 IO_L1N_T0_34 (io), U2 IO_L2P_T0_34 (io), U3 IO_L6P_T0_34 (io), U5 IO_L14N_T2_SRCC_34 (io), U6 IO_L16P_T2_34 (io), U7 IO_25_34 (io), V2 IO_L2N_T0_34 (io), V3 IO_L6N_T0_VREF_34 (io), V4 IO_L12P_T1_MRCC_34 (io), V5 IO_L16N_T2_34 (io), V7 IO_L19P_T3_34 (io), V8 IO_L21N_T3_DQS_34 (io), V9 IO_L21P_T3_DQS_34 (io), W1 IO_L5P_T0_34 (io), W2 IO_L4P_T0_34 (io), W4 IO_L12N_T1_MRCC_34 (io), W5 IO_L15N_T2_DQS_34 (io), W6 IO_L15P_T2_DQS_34 (io), W7 IO_L19N_T3_VREF_34 (io), W9 IO_L24P_T3_34 (io), Y1 IO_L5N_T0_34 (io), Y2 IO_L4N_T0_34 (io), Y3 IO_L9P_T1_DQS_34 (io), Y4 IO_L11P_T1_SRCC_34 (io), Y6 IO_L18P_T2_34 (io), Y7 IO_L23N_T3_34 (io), Y8 IO_L23P_T3_34 (io), Y9 IO_L24N_T3_34 (io)
part H pins: A1 IO_L1N_T0_AD4N_35 (io), B1 IO_L1P_T0_AD4P_35 (io), B2 IO_L2N_T0_AD12N_35 (io), C2 IO_L2P_T0_AD12P_35 (io), D1 IO_L3N_T0_DQS_AD5N_35 (io), D2 IO_L4N_T0_35 (io), E1 IO_L3P_T0_DQS_AD5P_35 (io), E2 IO_L4P_T0_35 (io), E3 IO_L6N_T0_VREF_35 (io), F1 IO_L5N_T0_AD13N_35 (io), F3 IO_L6P_T0_35 (io), F4 IO_0_35 (io), G1 IO_L5P_T0_AD13P_35 (io), G2 IO_L8N_T1_AD14N_35 (io), G3 IO_L11N_T1_SRCC_35 (io), G4 IO_L12N_T1_MRCC_35 (io), H2 IO_L8P_T1_AD14P_35 (io), H3 IO_L11P_T1_SRCC_35 (io), H4 IO_L12P_T1_MRCC_35 (io), H5 IO_L10N_T1_AD15N_35 (io), J1 IO_L7N_T1_AD6N_35 (io), J2 IO_L9N_T1_DQS_AD7N_35 (io), J4 IO_L13N_T2_MRCC_35 (io), J5 IO_L10P_T1_AD15P_35 (io), J6 IO_L17N_T2_35 (io), K1 IO_L7P_T1_AD6P_35 (io), K2 IO_L9P_T1_DQS_AD7P_35 (io), K3 IO_L14N_T2_SRCC_35 (io), K4 IO_L13P_T2_MRCC_35 (io), K6 IO_L17P_T2_35 (io), L1 IO_L15N_T2_DQS_35 (io), L3 IO_L14P_T2_SRCC_35 (io), L4 IO_L18N_T2_35 (io), L5 IO_L18P_T2_35 (io), L6 IO_25_35 (io), M1 IO_L15P_T2_DQS_35 (io), M2 IO_L16N_T2_35 (io), M3 IO_L16P_T2_35 (io), M5 IO_L23N_T3_35 (io), M6 IO_L23P_T3_35 (io), N2 IO_L22N_T3_35 (io), N3 IO_L19N_T3_VREF_35 (io), N4 IO_L19P_T3_35 (io), N5 IO_L24N_T3_35 (io), P1 IO_L20N_T3_35 (io), P2 IO_L22P_T3_35 (io), P4 IO_L21N_T3_DQS_35 (io), P5 IO_L21P_T3_DQS_35 (io), P6 IO_L24P_T3_35 (io), R1 IO_L20P_T3_35 (io)
part I pins: A4 MGTPTXN0_216 (io), A6 MGTPTXN2_216 (io), A8 MGTPRXN0_216 (io), A10 MGTPRXN2_216 (io), B4 MGTPTXP0_216 (io), B6 MGTPTXP2_216 (io), B8 MGTPRXP0_216 (io), B10 MGTPRXP2_216 (io), C5 MGTPTXN1_216 (io), C7 MGTPTXN3_216 (io), C9 MGTPRXN3_216 (io), C11 MGTPRXN1_216 (io), D5 MGTPTXP1_216 (io), D7 MGTPTXP3_216 (io), D9 MGTPRXP3_216 (io), D11 MGTPRXP1_216 (io), E6 MGTREFCLK0N_216 (io), E10 MGTREFCLK1N_216 (io), F6 MGTREFCLK0P_216 (io), F8 MGTRREF_216 (io), F10 MGTREFCLK1P_216 (io)
part J pins: G11 DONE_0 (io), L10 VP_0 (io), L12 CCLK_0 (io), M9 VN_0 (io), N9 DXN_0 (io), N10 DXP_0 (io), N12 PROGRAM_B_0 (io), R13 TDI_0 (in), T13 TMS_0 (in), U8 CFGBVS_0 (io), U9 M2_0 (io), U10 M1_0 (io), U11 M0_0 (io), U12 INIT_B_0 (io), U13 TDO_0 (out), V12 TCK_0 (in)
part D text: BANK 14
part E text: BANK 15
part F text: BANK 16
part G text: BANK 34
part H text: BANK 35
part I text: BANK 216
part J text: BANK 0

## МНП-М7
designator DD?
GPS module
footprint МНП-М7
pins: 1 UART_TX, 2 UART_RX, 3 GND, 4 UART1_TX, 5 UART1_RX, 6 GND, 7 TDI, 8 TMS, 9 TCK, 10 TDO, 11 TP0, 12 GND, 13 GND, 14 SDA, 15 SCL, 16 GND, 17 GND, 18 RF, 19 GND, 20 VANT, 21 GND, 22 VIN, 23 VBAT, 24 /SHDN, 25 GND, 26 /MR, 27 1SEC, 28 PSEL0, 29 PSEL1, 30 LED, 31 TP1, 32 GND